# EAGLE library part UM3567 (library oldschool)
YM2413 analog. Different pinout!!!
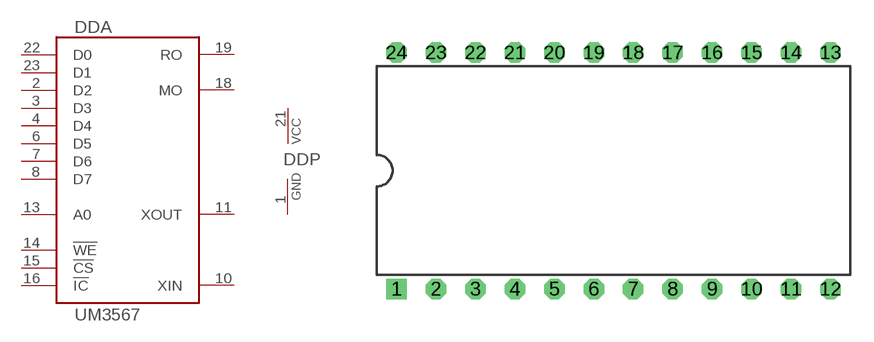
[diagram p1: symbol with the pads of DIL24; footprint DIL24]

Designator prefix DD; gates A=OPLL P=PWRN

## UM3567  [DIL24]
1  P:GND  pwr
2  A:D2
3  A:D3
4  A:D4
6  A:D5
7  A:D6
8  A:D7
10  A:XIN  in
11  A:XOUT  out
13  A:A0  in
14  A:!WE  in
15  A:!CS  in
16  A:!IC  in
18  A:MO  out
19  A:RO  out
21  P:VCC  pwr
22  A:D0
23  A:D1

## Footprint DIL24 (pad centres in mm)
Dual In Line Package
drill 0.813 square: 1 -13.97,-7.62
drill 0.813 octagon: 2 -11.43,-7.62; 3 -8.89,-7.62; 4 -6.35,-7.62; 5 -3.81,-7.62; 6 -1.27,-7.62; 7 1.27,-7.62; 8 3.81,-7.62; 9 6.35,-7.62; 10 8.89,-7.62; 11 11.43,-7.62; 12 13.97,-7.62; 13 13.97,7.62; 14 11.43,7.62; 15 8.89,7.62; 16 6.35,7.62; 17 3.81,7.62; 18 1.27,7.62; 19 -1.27,7.62; 20 -3.81,7.62; 21 -6.35,7.62; 22 -8.89,7.62; 23 -11.43,7.62; 24 -13.97,7.62